# Altium schematic symbol library rapidcamera.SchLib: 4 symbols
Pins are listed as number, name and electrical type; pins without a type are passive.

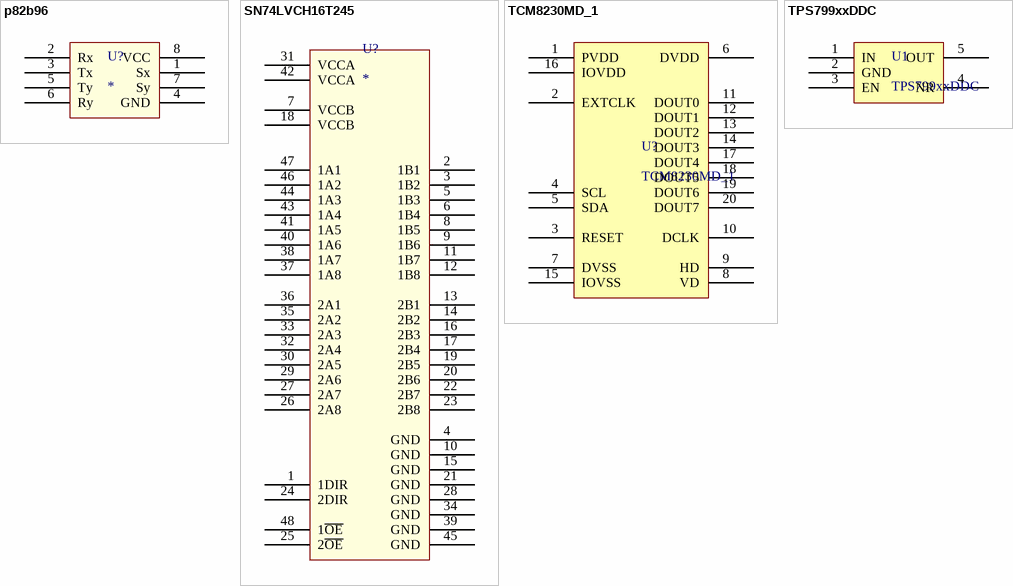
[diagram p0: symbols p82b96 to TPS799xxDDC]

## p82b96
designator U?
footprint DIP-8 (DIP, 8-Pin, Row Spacing 7.62 mm, Pitch 2.54 mm)
pins: 1 Sx, 2 Rx, 3 Tx, 4 GND, 5 Ty, 6 Ry, 7 Sy, 8 VCC

## SN74LVCH16T245
designator U?
16-bit bus transceiver with voltage regulation.
footprint SN74LVCH16T245
pins: 1 1DIR, 2 1B1, 3 1B2, 4 GND, 5 1B3, 6 1B4, 7 VCCB, 8 1B5, 9 1B6, 10 GND, 11 1B7, 12 1B8, 13 2B1, 14 2B2, 15 GND, 16 2B3, 17 2B4, 18 VCCB, 19 2B5, 20 2B6, 21 GND, 22 2B7, 23 2B8, 24 2DIR, 25 2~{OE}, 26 2A8, 27 2A7, 28 GND, 29 2A6, 30 2A5, 31 VCCA, 32 2A4, 33 2A3, 34 GND, 35 2A2, 36 2A1, 37 1A8, 38 1A7, 39 GND, 40 1A6, 41 1A5, 42 VCCA, 43 1A4, 44 1A3, 45 GND, 46 1A2, 47 1A1, 48 1~{OE}

## TCM8230MD_1
designator U?
VGA CAMERA MODULE 640x480
footprint TCM8230MD (VGA CAMERA MODULE 640x480)
pins: 1 PVDD, 2 EXTCLK, 3 RESET, 4 SCL, 5 SDA, 6 DVDD, 7 DVSS, 8 VD, 9 HD, 10 DCLK, 11 DOUT0, 12 DOUT1, 13 DOUT2, 14 DOUT3, 15 IOVSS, 16 IOVDD, 17 DOUT4, 18 DOUT5, 19 DOUT6, 20 DOUT7

## TPS799xxDDC
designator U1
200mA, Low Quiescent Current, Ultra-Low Noise, High PSRR  Low Dropout Linear Regulator
footprint TSOT23-5 (Footprint not found)
footprint TSOT23-5 (SOT23, 5-Leads, Body 3.0x3.0mm (max), Pitch 0.95mm, IPC Medium Density)
pins: 1 IN, 2 GND, 3 EN, 4 NR, 5 OUT